# Altium footprint library Diversos.PcbLib: 8 footprints
Each footprint in its own frame and in the unit in brackets; x right, y up, seen from the top. Pads: shape width x height; smd on the part's side, far side on the other; paste and mask are expansions set on the pad; w line width, h text height; cw(c..) or ccw(c..) is an arc to the next point about the centre after c.
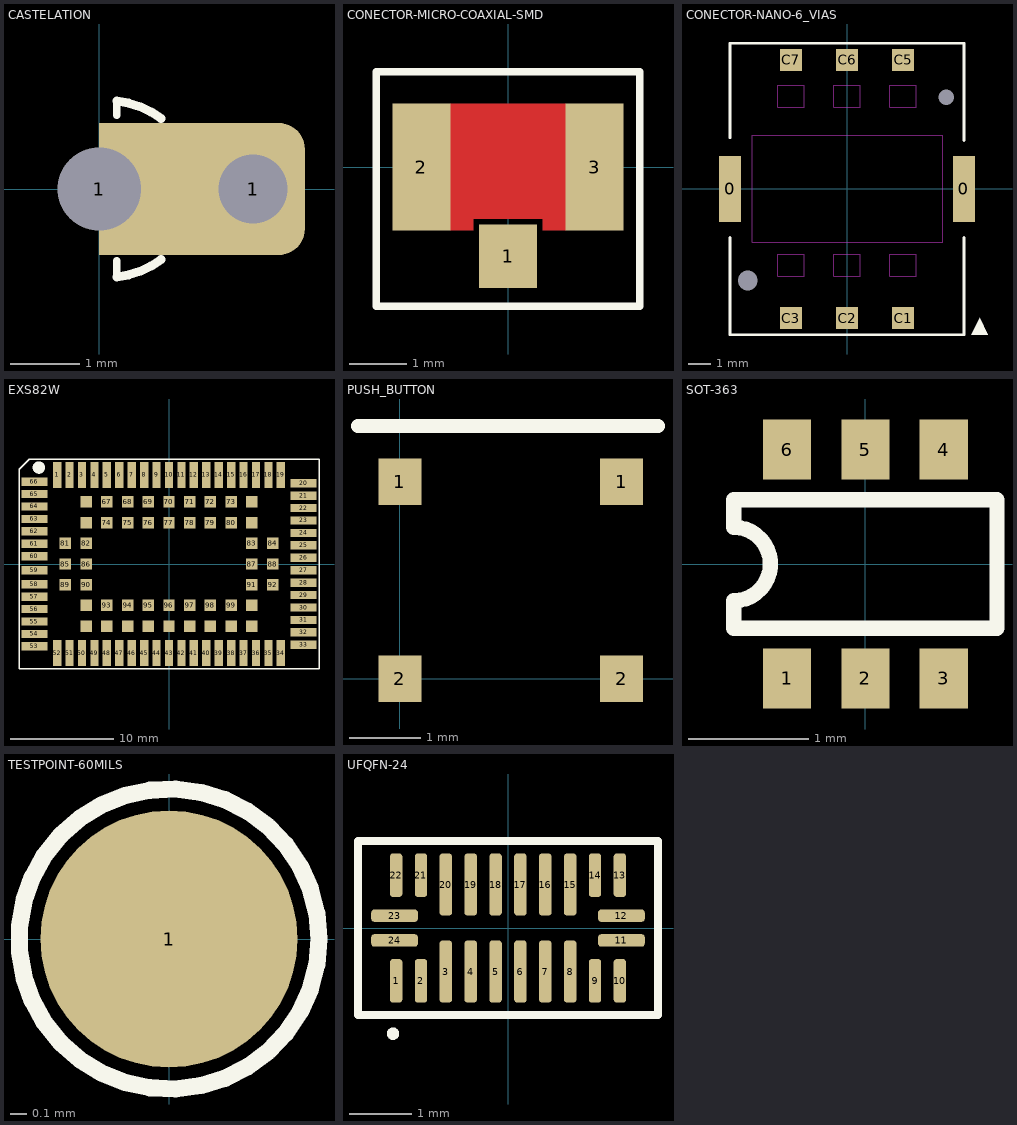
[diagram p0: the footprints below, top view; thin cyan lines are the x and y axes]

## CASTELATION [mm]
pads (2):
  rect 2.286x1.905 hole 1.2 copper offset 1.143,0: 1(0,0)
  rrect50% 1.5x1.905 hole 1: 1(2.22,0)
Top Overlay:
  lines w0.114: 0.254,-1.27 0.254,-1.041 ; 0.254,1.067 0.254,1.27
  lines w0.127: 0.254,-1.27 ccw(c0.12,0) 0.891,-1.018 ; 0.254,1.27 cw(c0.12,0) 0.891,1.018

## CONECTOR-MICRO-COAXIAL-SMD [mm]
pads (3):
  rect 1x1.1 smd: 1(0,-1.55)
  rect 1x2.2 smd: 2(-1.5,0) 3(1.5,0)
Top Layer:
  pour cut-out: -1,1.1 1,1.1 1,-1.1 0.6,-1.1 0.6,-0.9 -0.6,-0.9 -0.6,-1.1 -1,-1.1
Top Overlay:
  lines w0.127: -2.286,-2.413 -2.286,1.651 2.286,1.651 2.286,-2.413 -2.286,-2.413
3D body: height 1.2, standoff 0.1, extent -1,-1 0.021,0.999
3D body: height 1.2, standoff 0.1, extent -0.021,-0.999 1,1
3D body: height 1.3, standoff 0.1, extent -0.25,-0.25 0.25,0.25
3D body: height 0.4, standoff 0, extent -1.3,-1.3 1.3,1.3

## CONECTOR-NANO-6_VIAS [mm]
pads (10):
  rect 1x3 smd: 0(-5.3,0) 0(5.3,0)
  rect 1x1 smd: C1(2.54,-5.85) C2(0,-5.85) C3(-2.54,-5.85) C5(2.54,5.85) C6(0,5.85) C7(-2.54,5.85)
  round 0 hole 0.7 unplated: FIX1(4.5,4.15)
  round 0 hole 0.9 unplated: FIX2(-4.5,-4.15)
Top Layer keep-out:
  lines w0.01: -4.293,-2.425 -3.575,-2.425 3.575,-2.425 4.343,-2.425 4.343,2.425 3.575,2.425 -3.575,2.425 -4.293,2.425 -4.293,-2.425 ; -3.14,-3.95 -3.14,-2.95 -1.94,-2.95 -1.94,-3.95 -3.14,-3.95 ; -3.14,3.7 -1.94,3.7 -1.94,4.7 -3.14,4.7 -3.14,3.7 ; -0.6,-3.95 -0.6,-2.95 0.6,-2.95 0.6,-3.95 -0.6,-3.95 ; -0.6,3.7 0.6,3.7 0.6,4.7 -0.6,4.7 -0.6,3.7 ; 1.94,-3.95 1.94,-2.95 3.14,-2.95 3.14,-3.95 1.94,-3.95 ; 1.94,3.7 3.14,3.7 3.14,4.7 1.94,4.7 1.94,3.7
Top Overlay:
  region: 6.008,-5.844 5.627,-6.606 6.389,-6.606
  lines w0.127: -5.3,-2.193 -5.3,-6.604 5.3,-6.604 5.3,-2.193 ; -5.3,2.32 -5.3,6.604 5.3,6.604 5.3,2.193
3D body: height 1.25, standoff 0, extent -4.76,-6.11 4.76,6.1

## EXS82W [mm]
pads (114):
  rect 0.8x2.5 smd: 1(-10.8,8.6) 2(-9.6,8.6) 3(-8.4,8.6) 4(-7.2,8.6) 5(-6,8.6) 6(-4.8,8.6) 7(-3.6,8.6) 8(-2.4,8.6) 9(-1.2,8.6) 10(0,8.6) 11(1.2,8.6) 12(2.4,8.6) 13(3.6,8.6) 14(4.8,8.6) 15(6,8.6) 16(7.2,8.6) 17(8.4,8.6) 18(9.6,8.6) 19(10.8,8.6) 34(10.8,-8.6) 35(9.6,-8.6) 36(8.4,-8.6) 37(7.2,-8.6) 38(6,-8.6) 39(4.8,-8.6) 40(3.6,-8.6) 41(2.4,-8.6) 42(1.2,-8.6) 43(0,-8.6) 44(-1.2,-8.6) 45(-2.4,-8.6) 46(-3.6,-8.6) 47(-4.8,-8.6) 48(-6,-8.6) 49(-7.2,-8.6) 50(-8.4,-8.6) 51(-9.6,-8.6) 52(-10.8,-8.6)
  rect 2.5x0.8 smd: 20(13,7.8) 21(13,6.6) 22(13,5.4) 23(13,4.2) 24(13,3) 25(13,1.8) 26(13,0.6) 27(13,-0.6) 28(13,-1.8) 29(13,-3) 30(13,-4.2) 31(13,-5.4) 32(13,-6.6) 33(13,-7.8) 53(-13,-7.95) 54(-13,-6.75) 55(-13,-5.55) 56(-13,-4.35) 57(-13,-3.15) 58(-13,-1.95) 59(-13,-0.6) 60(-13,0.75) 61(-13,1.95) 62(-13,3.15) 63(-13,4.35) 64(-13,5.55) 65(-13,6.75) 66(-13,7.95)
  rect 1.1x1.1 smd: 67(-6,6) 68(-4,6) 69(-2,6) 70(0,6) 71(2,6) 72(4,6) 73(6,6) 74(-6,4) 75(-4,4) 76(-2,4) 77(0,4) 78(2,4) 79(4,4) 80(6,4) 81(-10,2) 82(-8,2) 83(8,2) 84(10,2) 85(-10,0) 86(-8,0) 87(8,0) 88(10,0) 89(-10,-2) 90(-8,-2) 91(8,-2) 92(10,-2) 93(-6,-4) 94(-4,-4) 95(-2,-4) 96(0,-4) 97(2,-4) 98(4,-4) 99(6,-4) 100(-6,-6) 101(-4,-6) 102(-2,-6) 103(0,-6) 104(2,-6) 105(4,-6) 106(6,-6) 245(-8,6) 246(8,6) 247(8,4) 248(8,-4) 249(8,-6) 250(-8,-6) 251(-8,-4) 252(-8,4)
Top Overlay:
  circle w0.6: c-12.556,9.309 r0.3
  lines w0.127: -14.478,-10.109 14.478,-10.109 14.478,10.109 -13.513,10.109 -14.478,9.144 -14.478,-10.109
3D body: height 0.9, standoff 0, extent -13.81,-9.398 13.8,9.398
3D body: height 2.3, standoff 0.8, extent -13.3,-8.9 13.3,8.9

## PUSH_BUTTON [mm]
pads (4):
  rect 0.6x0.65 smd: 1(0,2.75) 1(3.1,2.75) 2(0,0) 2(3.1,0)
Top Overlay:
  lines w0.2: -0.584,3.531 3.607,3.531
3D body "PTS540JK035SMTRLFS.stp": height 0.3, standoff -0.05, extent -0.291,-0.453 3.409,3.247

## SOT-363 [mm]
pads (6):
  rect 0.4x0.5 smd: 1(-0.65,-0.95) 2(0,-0.95) 3(0.65,-0.95) 4(0.65,0.95) 5(0,0.95) 6(-0.65,0.95)
Top Overlay:
  lines w0.127: -1.092,-0.533 1.092,-0.533 1.092,0.533 -1.092,0.533 -1.092,0.305 cw(c-1.092,0) -1.092,-0.305 -1.092,-0.533
3D body "SOT363-SC.step": height 0.96, standoff -0.03, extent -1,-1.05 1,1.05

## TESTPOINT-60MILS [mil]
pads (1):
  round 60 smd: 1(0,0)
Top Overlay:
  circle w4: c0,0 r35

## UFQFN-24 [mm]
pads (48):
  rrect50% 0.2x0.7 smd paste-0.18: 1(-1.8,-0.85) 2(-1.4,-0.85) 9(1.4,-0.85) 10(1.8,-0.85) 13(1.8,0.85) 14(1.4,0.85) 21(-1.4,0.85) 22(-1.8,0.85)
  rrect50% 0.2x1 smd paste-0.18: 3(-1,-0.7) 4(-0.6,-0.7) 5(-0.2,-0.7) 6(0.2,-0.7) 7(0.6,-0.7) 8(1,-0.7) 15(1,0.7) 16(0.6,0.7) 17(0.2,0.7) 18(-0.2,0.7) 19(-0.6,0.7) 20(-1,0.7)
  rrect50% 0.75x0.2 smd paste-0.18: 11(1.825,-0.2) 12(1.825,0.2) 23(-1.825,0.2) 24(-1.825,-0.2)
  rrect50% 0.7x0.2 on Top Paste: ""(-1.85,-0.2) ""(-1.85,0.2) ""(1.85,-0.2) ""(1.85,0.2)
  rrect50% 0.2x0.65 on Top Paste: ""(-1.8,-0.875) ""(-1.8,0.875) ""(-1.4,-0.875) ""(-1.4,0.875) ""(1.4,-0.875) ""(1.4,0.875) ""(1.8,-0.875) ""(1.8,0.875)
  rrect50% 0.2x0.95 on Top Paste: ""(-1,-0.725) ""(-1,0.725) ""(-0.6,-0.725) ""(-0.6,0.725) ""(-0.2,-0.725) ""(-0.2,0.725) ""(0.2,-0.725) ""(0.2,0.725) ""(0.6,-0.725) ""(0.6,0.725) ""(1,-0.725) ""(1,0.725)
Top Overlay:
  circle w0.1: c-1.85,-1.7 r0.05
  lines w0.127: -2.413,-1.397 2.413,-1.397 2.413,1.397 -2.413,1.397 -2.413,-1.397
3D body: height 0.55, standoff 0, extent -2,-1 2,1